# Altium integrated library Altera APEX 20KE.IntLib: 235 symbols (part 47 of 49)
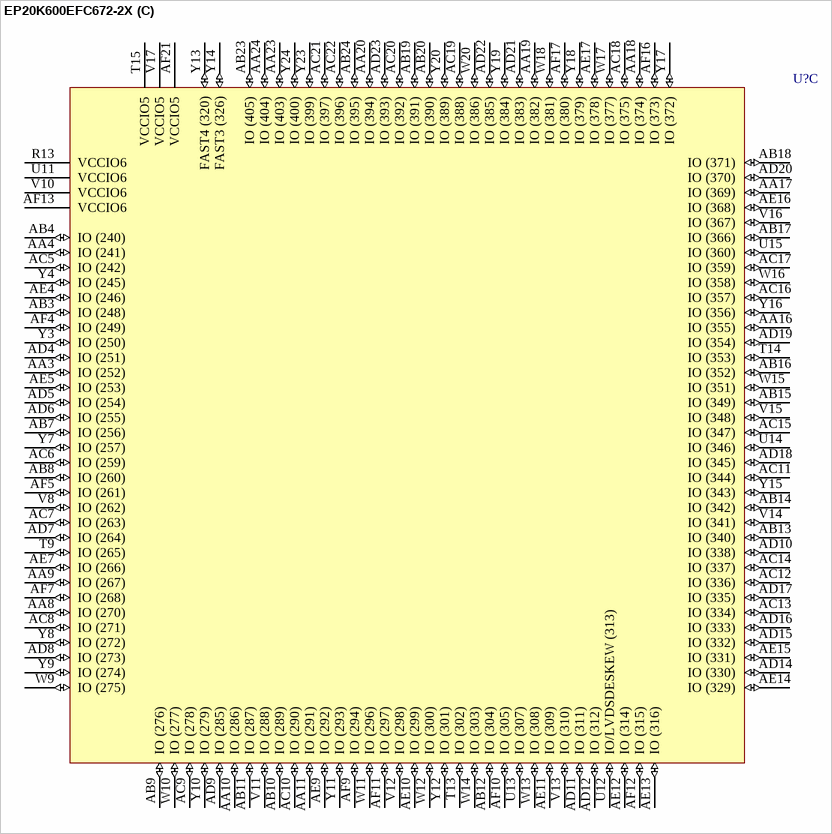
[diagram p445: symbol EP20K600EFC672-2X]

## EP20K1500EFC33-1
designator U?
APEX 20K1500E PLD, 1020-Pin FBGA, Commercial Grade, Speed Grade 1; Published: 17-Jul-2002; LatestRevisionDate: 13-Apr-2006; LatestRevisionNote: IPC-7351 Footprint Added.; DatasheetVersion: Mar-2004; PackageVersion: ver15.1, May-2008; PackageReference: FBGA1020; Publisher: Altium Limited; PackageDescription: 1020-Ball FineLine Ball Grid Array (FBGA1020) - Flip Chip; Code_JEDEC: MS-034-AAP-1; ComponentLink1Description: Manufacturer Link; ComponentLink1URL: http://www.altera.com/products/devices/apex/apx-index.html; ComponentLink2Description: Datasheet; ComponentLink2URL: http://www.altera.com/literature/ds/apex.pdf
footprint FBGA1020 (BGA, 1020-Leads, Body 33x33mm, Pitch 1mm)
3D model EP20K1500E-FBGA1020 (1020-Ball FineLine Ball Grid Array (FBGA1020) - Flip Chip)
part A pins: A3 VCCIO1 (power), A5 IO/DATA5 (1088) (io), A7 VCCIO1 (power), A8 IO/DATA3 (1053) (io), A9 IO/DATA2 (1033) (io), A10 IO/DATA1 (1016) (io), A12 VCCIO1 (power), A13 IO/CLKUSR (998) (io), A14 IO/RDYnBSY (993) (io), A15 IO/INIT_DONE (988) (io), A19 FAST2 (981) (io), A20 FAST1 (975) (io), B5 IO/DATA4 (1070) (io), B7 VCCIO1 (power), B8 IO (1078) (io), B9 IO (1066) (io), B10 IO (1055) (io), B12 VCCIO1 (power), B13 IO (1020) (io), B14 IO (1008) (io), B15 IO (996) (io), B28 IO (1) (io), C8 IO (1079) (io), C9 IO (1067) (io), C10 IO (1056) (io), C13 IO (1021) (io), C14 IO (1009) (io), C15 IO (997) (io), C16 IO (984) (io), C28 IO (2) (io), D8 IO (1080) (io), D9 IO (1068) (io), D10 IO (1057) (io), D13 IO (1023) (io), D14 IO (1010) (io), D15 IO (999) (io), D16 IO (985) (io), E7 IO (1086) (io), E8 IO (1081) (io), E9 IO (1069) (io), E10 IO (1058) (io), E11 IO (1046) (io), E12 IO (1031) (io), E13 IO (1024) (io), E14 IO (1012) (io), E15 IO (1001) (io), E16 IO (986) (io), F7 IO (1087) (io), F8 IO (1082) (io), F9 IO (1071) (io), F10 IO (1059) (io), F11 IO (1047) (io), F12 IO (1039) (io), F13 IO (1025) (io), F14 IO (1013) (io), F15 IO (1002) (io), F16 IO (987) (io), G8 IO (1084) (io), G9 IO (1073) (io), G10 IO (1060) (io), G11 IO (1048) (io), G12 IO (1041) (io), G13 IO (1026) (io), G14 IO (1014) (io), G15 IO (1003) (io), G16 IO (990) (io), H8 IO (1085) (io), H9 IO (1074) (io), H10 IO (1062) (io), H11 IO (1049) (io), H12 IO (1042) (io), H13 IO (1027) (io), H14 IO (1015) (io), H15 IO (1004) (io), H16 IO (991) (io), J9 IO (1075) (io), J10 IO (1063) (io), J11 IO (1051) (io), J12 IO (1043) (io), J13 IO (1028) (io), J14 IO (1017) (io), J15 IO (1005) (io), J16 IO (992) (io), K9 IO (1076) (io), K10 IO (1064) (io), K11 IO (1052) (io), K12 IO (1044) (io), K13 IO (1029) (io), K14 IO (1018) (io), K15 IO (1006) (io), K16 IO (994) (io), L9 IO (1077) (io), L10 IO (1065) (io), L11 IO (1054) (io), L12 IO (1045) (io), L13 IO (1030) (io), L14 IO (1019) (io), L15 IO (1007) (io), L16 IO (995) (io), M18 IO (12) (io), M19 IO (13) (io), M20 IO (3) (io), N17 IO (11) (io), N18 IO (6) (io), N19 IO (7) (io), P18 IO (5) (io), R17 IO (10) (io)
part B pins: A21 VCCIO2 (power), A25 IO (884) (io), A26 VCCIO2 (power), A28 IO (866) (io), A30 VCCIO2 (power), B18 IO (961) (io), B19 IO (950) (io), B20 IO (939) (io), B21 VCCIO2 (power), B23 IO (906) (io), B24 IO (895) (io), B25 IO (883) (io), B26 VCCIO2 (power), C17 IO (971) (io), C18 IO (960) (io), C19 IO (949) (io), C20 IO (938) (io), C23 IO (905) (io), C24 IO (894) (io), C25 IO (881) (io), C29 IO (865) (io), D17 IO (970) (io), D18 IO (959) (io), D19 IO (948) (io), D20 IO (937) (io), D23 IO (903) (io), D24 IO (892) (io), D25 IO (880) (io), D28 IO (864) (io), D29 IO (856) (io), E17 IO (969) (io), E18 IO (958) (io), E19 IO (947) (io), E20 IO (936) (io), E21 IO (928) (io), E22 IO (913) (io), E23 IO (902) (io), E24 IO (891) (io), E25 IO (879) (io), E26 IO (872) (io), E27 IO (868) (io), E28 IO (863) (io), F17 IO (968) (io), F18 IO (957) (io), F19 IO (946) (io), F20 IO (935) (io), F21 IO (927) (io), F22 IO (912) (io), F23 IO (901) (io), F24 IO (890) (io), F25 IO (878) (io), F26 IO (870) (io), F27 IO (867) (io), F28 IO (855) (io), G17 IO (967) (io), G18 IO (956) (io), G19 IO (945) (io), G20 IO (934) (io), G21 IO (926) (io), G22 IO (911) (io), G23 IO (900) (io), G24 IO (889) (io), G25 IO (877) (io), G26 IO (869) (io), H17 IO (965) (io), H18 IO (954) (io), H19 IO (943) (io), H20 IO (932) (io), H21 IO (925) (io), H22 IO (910) (io), H23 IO (899) (io), H24 IO (888) (io), H25 IO (876) (io), J17 IO (964) (io), J18 IO (953) (io), J19 IO (942) (io), J20 IO (931) (io), J21 IO (924) (io), J22 IO (909) (io), J23 IO (898) (io), J24 IO (887) (io), J25 IO (875) (io), K17 IO (963) (io), K18 IO (952) (io), K19 IO (941) (io), K20 IO (930) (io), K21 IO (922) (io), K22 IO (908) (io), K23 IO (897) (io), K24 IO (886) (io), K25 IO (874) (io), L17 IO (962) (io), L18 IO (951) (io), L19 IO (940) (io), L20 IO (929) (io), L21 IO (915) (io), L22 IO (907) (io), L23 IO (896) (io), L24 IO (885) (io), L25 IO (873) (io), M21 IO (854) (io), N20 IO (859) (io), P19 IO (860) (io), R18 IO (861) (io), T17 IO (853) (io)
part C pins: A29 IO/LVDSRXINCLK1n (722) (io), AC31 IO/LVDSRX05n (741) (io), AC32 IO/LVDSRX05p (740) (io), AD31 IO/LVDSRX04p (737) (io), AD32 IO/LVDSRX04n (736) (io), AE31 IO/LVDSRX03n (734) (io), AE32 IO/LVDSRX03p (733) (io), AH31 IO/LVDSRX02p (731) (io), AH32 IO/LVDSRX02n (730) (io), AJ31 IO/LVDSRX01n (728) (io), AJ32 IO/LVDSRX01p (727) (io), AL29 IO/CLKLK_OUT1n (716) (io), B29 IO/LVDSRXINCLK1p (721) (io), C32 VCCIO3 (power), D30 IO (850) (io), D31 IO/LVDSRX16p (776) (io), D32 IO/LVDSRX16n (775) (io), E29 IO (851) (io), E30 IO (843) (io), E31 IO/LVDSRX15n (773) (io), E32 IO/LVDSRX15p (772) (io), G27 IO (849) (io), G28 IO (848) (io), G31 VCCIO3 (power), G32 VCCIO3 (power), H26 IO (842) (io), H27 IO (839) (io), H28 IO (838) (io), H29 IO (834) (io), H30 IO/LOCK3 (729) (io), H31 IO/LVDSRX14p (770) (io), H32 IO/LVDSRX14n (769) (io), J26 IO (844) (io), J27 IO (826) (io), J28 IO (837) (io), J29 IO (820) (io), J31 IO/LVDSRX13n (767) (io), J32 IO/LVDSRX13p (766) (io), K26 IO (827) (io), K27 IO (833) (io), K28 IO (822) (io), K29 IO (812) (io), K31 IO/LVDSRX12p (763) (io), K32 IO/LVDSRX12n (762) (io), L26 IO (829) (io), L27 IO (818) (io), L28 IO (811) (io), M22 IO (845) (io), M23 IO (832) (io), M25 IO (817) (io), M26 IO (815) (io), M27 IO (809) (io), M28 IO (806) (io), M31 VCCIO3 (power), M32 VCCIO3 (power), N21 IO (840) (io), N22 IO (828) (io), N23 IO (816) (io), N25 IO (807) (io), N26 IO (796) (io), N27 IO (799) (io), N28 IO (801) (io), N29 IO (794) (io), N31 IO/LVDSRX11n (760) (io), N32 IO/LVDSRX11p (759) (io), P20 IO (831) (io), P21 IO (823) (io), P22 IO (810) (io), P25 IO (795) (io), P26 IO (787) (io), P27 IO (788) (io), P28 IO (793) (io), P29 IO (786) (io), P31 IO/LVDSRX10p (757) (io), P32 IO/LVDSRX10n (756) (io), R19 IO (821) (io), R20 IO (804) (io), R21 IO (800) (io), R22 IO (798) (io), R23 IO (792) (io), R24 IO (789) (io), R25 IO (785) (io), R26 IO (782) (io), R27 IO (780) (io), R28 IO (779) (io), R29 IO (774) (io), R31 IO/LVDSRX09n (754) (io), R32 IO/LVDSRX09p (753) (io), T18 IO (805) (io), T19 IO (783) (io), T20 IO (781) (io), T21 IO (768) (io), T22 IO (761) (io), T23 IO (755) (io), T25 IO (742) (io), T26 IO (748) (io), T27 IO (723) (io), T28 IO (735) (io), T29 IO (724) (io), V31 IO/LVDSRX08p (750) (io), V32 IO/LVDSRX08n (749) (io), W31 IO/LVDSRX07n (747) (io), W32 IO/LVDSRX07p (746) (io), Y31 IO/LVDSRX06p (744) (io), Y32 IO/LVDSRX06n (743) (io)
part D pins: AA16 IO (569) (io), AA17 IO (562) (io), AA18 IO (566) (io), AA19 IO (571) (io), AA20 IO (573) (io), AA21 IO (578) (io), AA22 IO (605) (io), AA23 IO (610) (io), AA24 IO (624) (io), AA25 IO (637) (io), AA26 IO (643) (io), AA27 IO (644) (io), AA28 IO (651) (io), AA31 VCCIO4 (power), AA32 VCCIO4 (power), AB26 IO (630) (io), AB27 IO (639) (io), AB28 IO (636) (io), AC26 IO (618) (io), AC27 IO (631) (io), AC28 IO (629) (io), AC29 IO (635) (io), AC30 IO/LOCK1 (684) (io), AD26 IO (606) (io), AD27 IO (611) (io), AD28 IO (622) (io), AD29 IO (623) (io), AD30 IO (632) (io), AE26 IO (600) (io), AE27 IO (613) (io), AE28 IO (607) (io), AE29 IO (615) (io), AE30 IO (619) (io), AF26 IO (595) (io), AF27 IO (601) (io), AF28 IO (599) (io), AF31 VCCIO4 (power), AF32 VCCIO4 (power), AG27 IO (590) (io), AG28 IO (593) (io), AH27 IO (574) (io), AH28 IO (594) (io), AH29 IO (596) (io), AH30 IO (604) (io), AJ28 IO (584) (io), AJ29 IO (583) (io), AJ30 IO (602) (io), AK28 IO (579) (io), AK29 IO (577) (io), AK32 VCCIO4 (power), AM28 IO/CLKLK_FB1n (694) (io), N30 CLK1p (706) (in), U17 IO (589) (io), U18 IO (656) (io), U19 IO (669) (io), U20 IO (671) (io), U21 IO (676) (io), U22 IO (675) (io), U23 IO (682) (io), U24 IO (680) (io), U25 IO (683) (io), U26 IO (687) (io), U27 IO (688) (io), U28 IO (689) (io), U29 IO (681) (io), V17 IO (572) (io), V18 IO (591) (io), V19 IO (625) (io), V20 IO (648) (io), V21 IO (649) (io), V22 IO (658) (io), V23 IO (663) (io), V25 IO (667) (io), V26 IO (670) (io), V27 IO (674) (io), V28 IO (677) (io), V29 IO (678) (io), V30 IO/CLK1n (698) (io), W16 IO (561) (io), W17 IO (563) (io), W18 IO (580) (io), W19 IO (582) (io), W20 IO (617) (io), W21 IO (628) (io), W22 IO (641) (io), W23 IO (645) (io), W25 IO (654) (io), W26 IO (665) (io), W27 IO (664) (io), W28 IO (668) (io), W29 IO (662) (io), W30 CLK3p (697) (in), Y16 IO (560) (io), Y17 IO (568) (io), Y18 IO (567) (io), Y19 IO (585) (io), Y20 IO (588) (io), Y21 IO (612) (io), Y22 IO (626) (io), Y23 IO (638) (io), Y24 IO (642) (io), Y25 IO (652) (io), Y26 IO (650) (io), Y27 IO (655) (io), Y28 IO (657) (io), Y29 IO (661) (io), Y30 IO/CLK3n (696) (io)
part E pins: AA13 IO (549) (io), AA14 IO (551) (io), AA15 IO (554) (io), AB17 IO (451) (io), AB18 IO (462) (io), AB19 IO (473) (io), AB20 IO (484) (io), AB21 IO (498) (io), AB22 IO (505) (io), AB23 IO (518) (io), AB24 IO (530) (io), AB25 IO (542) (io), AC17 IO (450) (io), AC18 IO (461) (io), AC19 IO (472) (io), AC20 IO (483) (io), AC21 IO (497) (io), AC22 IO (504) (io), AC23 IO (516) (io), AC24 IO (529) (io), AC25 IO (541) (io), AD17 IO (449) (io), AD18 IO (460) (io), AD19 IO (471) (io), AD20 IO (482) (io), AD21 IO (495) (io), AD22 IO (503) (io), AD23 IO (515) (io), AD24 IO (527) (io), AD25 IO (540) (io), AE17 IO (448) (io), AE18 IO (459) (io), AE19 IO (470) (io), AE20 IO (481) (io), AE21 IO (489) (io), AE22 IO (502) (io), AE23 IO (514) (io), AE24 IO (526) (io), AE25 IO (538) (io), AF17 IO (447) (io), AF18 IO (458) (io), AF19 IO (469) (io), AF20 IO (480) (io), AF21 IO (487) (io), AF22 IO (501) (io), AF23 IO (513) (io), AF24 IO (525) (io), AF25 IO (537) (io), AG17 IO (446) (io), AG18 IO (457) (io), AG19 IO (468) (io), AG20 IO (479) (io), AG21 IO (486) (io), AG22 IO (500) (io), AG23 IO (512) (io), AG24 IO (524) (io), AG25 IO (536) (io), AG26 IO (544) (io), AH5 IO (547) (io), AH17 IO (444) (io), AH18 IO (455) (io), AH19 IO (466) (io), AH20 IO (477) (io), AH21 IO (485) (io), AH22 IO (499) (io), AH23 IO (511) (io), AH24 IO (523) (io), AH25 IO (535) (io), AH26 IO (543) (io), AJ16 IO (440) (io), AJ17 IO (443) (io), AJ18 IO (454) (io), AJ19 IO (465) (io), AJ20 IO (476) (io), AJ23 IO (510) (io), AJ24 IO (522) (io), AJ25 IO (534) (io), AK16 IO (441) (io), AK17 IO (442) (io), AK18 IO (453) (io), AK19 IO (464) (io), AK20 IO (475) (io), AK23 IO (509) (io), AK24 IO (521) (io), AK25 IO (533) (io), AL18 IO (452) (io), AL19 IO (463) (io), AL20 IO (474) (io), AL21 VCCIO5 (power), AL23 IO (508) (io), AL24 IO (520) (io), AL25 IO (532) (io), AL26 VCCIO5 (power), AM15 FAST4 (431) (io), AM18 FAST3 (437) (io), AM21 VCCIO5 (power), AM23 IO (507) (io), AM24 IO (519) (io), AM25 IO (531) (io), AM26 VCCIO5 (power), AM30 VCCIO5 (power), V15 IO (545) (io), V16 IO (557) (io), W15 IO (555) (io), Y13 IO (546) (io), Y14 IO (550) (io), Y15 IO (556) (io)
part F pins: AA11 IO (311) (io), AA12 IO (321) (io), AB8 IO (331) (io), AB9 IO (343) (io), AB10 IO (355) (io), AB11 IO (366) (io), AB12 IO (379) (io), AB13 IO (387) (io), AB14 IO (398) (io), AB15 IO (409) (io), AB16 IO (420) (io), AC8 IO (332) (io), AC9 IO (344) (io), AC10 IO (356) (io), AC11 IO (367) (io), AC12 IO (381) (io), AC13 IO (388) (io), AC14 IO (399) (io), AC15 IO (410) (io), AC16 IO (421) (io), AD8 IO (333) (io), AD9 IO (345) (io), AD10 IO (357) (io), AD11 IO (368) (io), AD12 IO (382) (io), AD13 IO (389) (io), AD14 IO (400) (io), AD15 IO (411) (io), AD16 IO (424) (io), AE7 IO (312) (io), AE8 IO (334) (io), AE9 IO (346) (io), AE10 IO (358) (io), AE11 IO (369) (io), AE12 IO (383) (io), AE13 IO (391) (io), AE14 IO (402) (io), AE15 IO (413) (io), AE16 IO (425) (io), AF5 IO (314) (io), AF6 IO (317) (io), AF7 IO (327) (io), AF8 IO (335) (io), AF9 IO (347) (io), AF10 IO (359) (io), AF11 IO (370) (io), AF12 IO (384) (io), AF13 IO (392) (io), AF14 IO (403) (io), AF15 IO (414) (io), AF16 IO (426) (io), AG5 IO (318) (io), AG6 IO (319) (io), AG7 IO (328) (io), AG8 IO (336) (io), AG9 IO (348) (io), AG10 IO (360) (io), AG11 IO (371) (io), AG12 IO (385) (io), AG13 IO (393) (io), AG14 IO (404) (io), AG15 IO (415) (io), AG16 IO (427) (io), AH4 IO (313) (io), AH6 IO (326) (io), AH7 IO (330) (io), AH8 IO (337) (io), AH9 IO (349) (io), AH10 IO (361) (io), AH11 IO (373) (io), AH12 IO (386) (io), AH13 IO (394) (io), AH14 IO (405) (io), AH15 IO (416) (io), AH16 IO (428) (io), AJ4 IO (324) (io), AJ5 IO (325) (io), AJ8 IO (338) (io), AJ9 IO (350) (io), AJ10 IO (363) (io), AJ13 IO (395) (io), AJ14 IO (406) (io), AJ15 IO (417) (io), AK8 IO (339) (io), AK9 IO (352) (io), AK10 IO (364) (io), AK13 IO (396) (io), AK14 IO (407) (io), AK15 IO (418) (io), AL7 VCCIO6 (power), AL8 IO (341) (io), AL9 IO (353) (io), AL10 IO (365) (io), AL12 VCCIO6 (power), AL13 IO (397) (io), AL14 IO (408) (io), AL15 IO (419) (io), AM3 VCCIO6 (power), AM7 VCCIO6 (power), AM8 IO (342) (io), AM9 IO (354) (io), AM10 IO/LVDSDESKEW (422) (io), AM12 VCCIO6 (power), U16 IO (323) (io), W14 IO (322) (io)
part G pins: AA1 VCCIO7 (power), AA2 VCCIO7 (power), AA5 IO (275) (io), AA6 IO (274) (io), AA7 IO (279) (io), AA8 IO (278) (io), AA10 IO (302) (io), AB5 IO (277) (io), AB6 IO (290) (io), AB7 IO (289) (io), AC1 IO/LVDSTX12n (219) (io), AC2 IO/LVDSTX12p (220) (io), AC4 IO (286) (io), AC5 IO (284) (io), AC6 IO (295) (io), AC7 IO (296) (io), AD1 IO/LVDSTX13p (223) (io), AD2 IO/LVDSTX13n (224) (io), AD4 IO (294) (io), AD5 IO (301) (io), AD6 IO (305) (io), AD7 IO (308) (io), AE1 IO/LVDSTX14n (226) (io), AE2 IO/LVDSTX14p (227) (io), AE3 IO/DEV_OE (171) (io), AE4 IO (297) (io), AE5 IO (306) (io), AE6 IO (307) (io), AF1 VCCIO7 (power), AF2 VCCIO7 (power), AH1 IO/LVDSTX15p (229) (io), AH2 IO/LVDSTX15n (230) (io), AJ1 IO/LVDSTX16n (232) (io), AJ2 IO/LVDSTX16p (233) (io), AJ3 IO/CLKLK_OUT2n (175) (io), AK1 VCCIO7 (power), AK4 IO/LOCK2 (179) (io), AK5 IO/LOCK4 (199) (io), AL4 IO/LVDSTXOUTCLK1p (181) (io), AL5 IO/LVDSTXINCLK1n (178) (io), AM4 IO/LVDSTXOUTCLK1n (180) (io), AM5 IO/LVDSTXINCLK1p (177) (io), D1 IO/LVDSTX01p (184) (io), D2 IO/LVDSTX01n (185) (io), E1 IO/LVDSTX02n (187) (io), E2 IO/LVDSTX02p (188) (io), H1 IO/LVDSTX03p (190) (io), H2 IO/LVDSTX03n (191) (io), J1 IO/LVDSTX04n (193) (io), J2 IO/LVDSTX04p (194) (io), K1 IO/LVDSTX05p (197) (io), K2 IO/LVDSTX05n (198) (io), N1 IO/LVDSTX06n (200) (io), N2 IO/LVDSTX06p (201) (io), P1 IO/LVDSTX07p (203) (io), P2 IO/LVDSTX07n (204) (io), R1 IO/LVDSTX08n (206) (io), R2 IO/LVDSTX08p (207) (io), T5 IO (192) (io), T6 IO (186) (io), U4 IO (205) (io), U5 IO (218) (io), U6 IO (212) (io), U7 IO (231) (io), U8 IO (225) (io), U9 IO (236) (io), U10 IO (240) (io), U11 IO (239) (io), U12 IO (245) (io), U13 IO (243) (io), U14 IO (253) (io), U15 IO (268) (io), V1 IO/LVDSTX09p (210) (io), V2 IO/LVDSTX09n (211) (io), V4 IO (238) (io), V5 IO (244) (io), V6 IO (237) (io), V7 IO (249) (io), V8 IO (242) (io), V10 IO (257) (io), V11 IO (262) (io), V12 IO (263) (io), V13 IO (273) (io), V14 IO (283) (io), W1 IO/LVDSTX10n (213) (io), W2 IO/LVDSTX10p (214) (io), W4 IO (246) (io), W5 IO (258) (io), W6 IO (251) (io), W7 IO (256) (io), W8 IO (255) (io), W10 IO (267) (io), W11 IO (280) (io), W12 IO (291) (io), W13 IO (300) (io), Y1 IO/LVDSTX11p (216) (io), Y2 IO/LVDSTX11n (217) (io), Y4 IO (261) (io), Y5 IO (264) (io), Y6 IO (269) (io), Y7 IO (266) (io), Y8 IO (272) (io), Y10 IO (285) (io), Y11 IO (288) (io), Y12 IO (299) (io)
part H pins: A4 IO/DATA6 (111) (io), B4 IO/DATA7 (118) (io), C1 VCCIO8 (power), C4 IO/nWS (124) (io), C5 IO (40) (io), D3 IO/nCS (137) (io), D4 IO/nRS (131) (io), D5 IO (34) (io), E3 IO/CS (145) (io), E4 IO (43) (io), E5 IO (46) (io), E6 IO (39) (io), F5 IO (50) (io), F6 IO (29) (io), G1 VCCIO8 (power), G2 VCCIO8 (power), G5 IO (51) (io), G6 IO (49) (io), G7 IO (44) (io), H3 IO/DEV_CLRn (147) (io), H4 IO (65) (io), H5 IO (60) (io), H6 IO (56) (io), H7 IO (48) (io), J3 IO/CLKLK_FB2n (149) (io), J4 IO (77) (io), J5 IO (68) (io), J6 IO (61) (io), J7 IO (62) (io), J8 IO (54) (io), K4 IO (91) (io), K5 IO (80) (io), K6 IO (74) (io), K7 IO (67) (io), K8 IO (59) (io), L5 IO (90) (io), L6 IO (86) (io), L7 IO (83) (io), L8 IO (79) (io), M1 VCCIO8 (power), M2 VCCIO8 (power), M5 IO (98) (io), M6 IO (94) (io), M7 IO (87) (io), M8 IO (85) (io), M9 IO (73) (io), M10 IO (66) (io), M11 IO (55) (io), M12 IO (32) (io), M13 IO (35) (io), M14 IO (22) (io), M15 IO (18) (io), M16 IO (17) (io), M17 IO (15) (io), N3 IO/CLK4n (151) (io), N4 IO (107) (io), N5 IO (106) (io), N6 IO (104) (io), N7 IO (99) (io), N8 IO (96) (io), N9 IO (92) (io), N10 IO (84) (io), N11 IO (72) (io), N12 IO (57) (io), N13 IO (37) (io), N14 IO (28) (io), N15 IO (27) (io), N16 IO (24) (io), P3 CLK4p (152) (in), P4 IO (116) (io), P5 IO (120) (io), P6 IO (112) (io), P7 IO (110) (io), P8 IO (105) (io), P10 IO (97) (io), P11 IO (93) (io), P12 IO (81) (io), P13 IO (70) (io), P14 IO (38) (io), P15 IO (26) (io), P16 IO (23) (io), P17 IO (16) (io), R3 IO/CLK2n (153) (io), R4 IO (129) (io), R5 IO (132) (io), R6 IO (126) (io), R7 IO (125) (io), R8 IO (123) (io), R9 IO (122) (io), R10 IO (117) (io), R11 IO (113) (io), R12 IO (103) (io), R13 IO (100) (io), R14 IO (78) (io), R15 IO (33) (io), R16 IO (21) (io), T4 IO (136) (io), T7 IO (146) (io), T8 IO (138) (io), T10 IO (135) (io), T11 IO (139) (io), T12 IO (133) (io), T13 IO (130) (io), T14 IO (119) (io), T15 IO (109) (io), T16 IO (45) (io), Y3 CLK2p (160) (in)
part I pins: A18 TDO (982) (out), A23 nCEO (974) (out), A24 TRST (973) (in), AC3 nCE (161) (in), AD3 TDI (162) (in), AH3 CLKLK_OUT2p (174) (out), AL28 CLKLK_FB1p (695) (in), AM13 CONF_DONE (429) (io), AM14 nSTATUS (430) (io), AM19 TCK (438) (in), AM20 TMS (439) (in), AM29 CLKLK_OUT1p (715) (out), J30 MSEL0 (708) (in), K3 CLKLK_FB2p (150) (in), K30 MSEL1 (707) (in), P30 CLKLK_ENA (705) (in), R30 nCONFIG (704) (in), V3 DATA0 (158) (in), W3 DCLK (159) (in)
part J pins: A2 VCCINT (power), A6 VCCINT (power), A11 VCCINT (power), A16 VCCINT (power), A17 GND (power), A22 VCCINT (power), A27 VCCINT (power), A31 VCCINT (power), AA3 GND (power), AA4 GND (power), AA9 VCC_CKOUT2 (172) (power), AA29 GND (power), AA30 GND (power), AB1 VCCINT (power), AB2 VCCINT (power), AB3 GND (power), AB4 GND (power), AB29 GND (power), AB30 GND (power), AB31 VCCINT (power), AB32 VCCINT (power), AF3 GND (power), AF4 GND (power), AF29 GND (power), AF30 GND (power), AG1 VCCINT (power), AG2 VCCINT (power), AG3 GND (power), AG4 GND (power), AG29 GND (power), AG30 GND (power), AG31 VCCINT (power), AG32 VCCINT (power), AJ6 GND (power), AJ7 GND (power), AJ11 GND (power), AJ12 GND (power), AJ21 GND (power), AJ22 GND (power), AJ26 GND (power), AJ27 GND (power), AK2 GND (power), AK3 GND (power), AK6 GND (power), AK7 GND (power), AK11 GND (power), AK12 GND (power), AK21 GND (power), AK22 GND (power), AK26 GND (power), AK27 GND (power), AK30 GND (power), AK31 GND (power), AL1 VCCINT (power), AL2 GND (power), AL3 GND (power), AL6 VCCINT (power), AL11 VCCINT (power), AL16 GND (power), AL17 VCCINT (power), AL22 VCCINT (power), AL27 VCCINT (power), AL30 GND (power), AL31 GND (power), AL32 VCCINT (power), AM2 VCCINT (power), AM6 VCCINT (power), AM11 VCCINT (power), AM16 GND (power), AM17 VCCINT (power), AM22 VCCINT (power), AM27 VCCINT (power), AM31 VCCINT (power), B1 VCCINT (power), B2 GND (power), B3 GND (power), B6 VCCINT (power), B11 VCCINT (power), B16 VCCINT (power), B17 GND (power), B22 VCCINT (power), B27 VCCINT (power), B30 GND (power), B31 GND (power), B32 VCCINT (power), C2 GND (power), C3 GND (power), C6 GND (power), C7 GND (power), C11 GND (power), C12 GND (power), C21 GND (power), C22 GND (power), C26 GND (power), C27 GND (power), C30 GND (power), C31 GND (power), D6 GND (power), D7 GND (power), D11 GND (power), D12 GND (power), D21 GND (power), D22 GND (power), D26 GND (power), D27 GND (power), F1 VCCINT (power), F2 VCCINT (power), F3 GND (power), F4 GND (power), F29 GND (power), F30 GND (power), F31 VCCINT (power), F32 VCCINT (power), G3 GND (power), G4 GND (power), G29 GND (power), G30 GND (power), L1 VCCINT (power), L2 VCCINT (power), L3 GND (power), L4 GND (power), L29 GND (power), L30 GND (power), L31 VCCINT (power), L32 VCCINT (power), M3 GND (power), M4 GND (power), M24 VCC_CKLK3 (717) (power), M29 GND (power), M30 GND (power), N24 VCC_CKOUT1 (713) (power), P9 VCC_CKLK4 (142) (power), P23 GND_CKLK3 (719) (power), P24 GND_CKLK3 (720) (power), T1 GND (power), T2 GND (power), T3 GND (power), T9 GND_CKLK4 (143/144) (power), T24 GND_CKOUT1 (714) (power), T30 VCCINT (power), T31 VCCINT (power), T32 VCCINT (power), U1 VCCINT (power), U2 VCCINT (power), U3 VCCINT (power), U30 GND (power), U31 GND (power), U32 GND (power), V9 GND_CKLK2 (163/164) (power), V24 GND_CKLK1 (691/692) (power), W9 GND_CKOUT2 (173) (power), W24 VCC_CKLK1 (690) (power), Y9 VCC_CKLK2 (167) (power)

## EP20K1500EFC33-1X
designator U?
APEX 20K1500E PLD with PLLs and LVDS, 1020-Pin FBGA, Commercial Grade, Speed Grade 1; Published: 17-Jul-2002; LatestRevisionDate: 13-Apr-2006; LatestRevisionNote: IPC-7351 Footprint Added.; DatasheetVersion: Mar-2004; PackageVersion: ver15.1, May-2008; PackageReference: FBGA1020; Publisher: Altium Limited; PackageDescription: 1020-Ball FineLine Ball Grid Array (FBGA1020) - Flip Chip; Code_JEDEC: MS-034-AAP-1; ComponentLink1Description: Manufacturer Link; ComponentLink1URL: http://www.altera.com/products/devices/apex/apx-index.html; ComponentLink2Description: Datasheet; ComponentLink2URL: http://www.altera.com/literature/ds/apex.pdf
footprint FBGA1020 (BGA, 1020-Leads, Body 33x33mm, Pitch 1mm)
3D model EP20K1500E-FBGA1020 (1020-Ball FineLine Ball Grid Array (FBGA1020) - Flip Chip)
part A pins: A3 VCCIO1 (power), A5 IO/DATA5 (1088) (io), A7 VCCIO1 (power), A8 IO/DATA3 (1053) (io), A9 IO/DATA2 (1033) (io), A10 IO/DATA1 (1016) (io), A12 VCCIO1 (power), A13 IO/CLKUSR (998) (io), A14 IO/RDYnBSY (993) (io), A15 IO/INIT_DONE (988) (io), A19 FAST2 (981) (io), A20 FAST1 (975) (io), B5 IO/DATA4 (1070) (io), B7 VCCIO1 (power), B8 IO (1078) (io), B9 IO (1066) (io), B10 IO (1055) (io), B12 VCCIO1 (power), B13 IO (1020) (io), B14 IO (1008) (io), B15 IO (996) (io), B28 IO (1) (io), C8 IO (1079) (io), C9 IO (1067) (io), C10 IO (1056) (io), C13 IO (1021) (io), C14 IO (1009) (io), C15 IO (997) (io), C16 IO (984) (io), C28 IO (2) (io), D8 IO (1080) (io), D9 IO (1068) (io), D10 IO (1057) (io), D13 IO (1023) (io), D14 IO (1010) (io), D15 IO (999) (io), D16 IO (985) (io), E7 IO (1086) (io), E8 IO (1081) (io), E9 IO (1069) (io), E10 IO (1058) (io), E11 IO (1046) (io), E12 IO (1031) (io), E13 IO (1024) (io), E14 IO (1012) (io), E15 IO (1001) (io), E16 IO (986) (io), F7 IO (1087) (io), F8 IO (1082) (io), F9 IO (1071) (io), F10 IO (1059) (io), F11 IO (1047) (io), F12 IO (1039) (io), F13 IO (1025) (io), F14 IO (1013) (io), F15 IO (1002) (io), F16 IO (987) (io), G8 IO (1084) (io), G9 IO (1073) (io), G10 IO (1060) (io), G11 IO (1048) (io), G12 IO (1041) (io), G13 IO (1026) (io), G14 IO (1014) (io), G15 IO (1003) (io), G16 IO (990) (io), H8 IO (1085) (io), H9 IO (1074) (io), H10 IO (1062) (io), H11 IO (1049) (io), H12 IO (1042) (io), H13 IO (1027) (io), H14 IO (1015) (io), H15 IO (1004) (io), H16 IO (991) (io), J9 IO (1075) (io), J10 IO (1063) (io), J11 IO (1051) (io), J12 IO (1043) (io), J13 IO (1028) (io), J14 IO (1017) (io), J15 IO (1005) (io), J16 IO (992) (io), K9 IO (1076) (io), K10 IO (1064) (io), K11 IO (1052) (io), K12 IO (1044) (io), K13 IO (1029) (io), K14 IO (1018) (io), K15 IO (1006) (io), K16 IO (994) (io), L9 IO (1077) (io), L10 IO (1065) (io), L11 IO (1054) (io), L12 IO (1045) (io), L13 IO (1030) (io), L14 IO (1019) (io), L15 IO (1007) (io), L16 IO (995) (io), M18 IO (12) (io), M19 IO (13) (io), M20 IO (3) (io), N17 IO (11) (io), N18 IO (6) (io), N19 IO (7) (io), P18 IO (5) (io), R17 IO (10) (io)
part B pins: A21 VCCIO2 (power), A25 IO (884) (io), A26 VCCIO2 (power), A28 IO (866) (io), A30 VCCIO2 (power), B18 IO (961) (io), B19 IO (950) (io), B20 IO (939) (io), B21 VCCIO2 (power), B23 IO (906) (io), B24 IO (895) (io), B25 IO (883) (io), B26 VCCIO2 (power), C17 IO (971) (io), C18 IO (960) (io), C19 IO (949) (io), C20 IO (938) (io), C23 IO (905) (io), C24 IO (894) (io), C25 IO (881) (io), C29 IO (865) (io), D17 IO (970) (io), D18 IO (959) (io), D19 IO (948) (io), D20 IO (937) (io), D23 IO (903) (io), D24 IO (892) (io), D25 IO (880) (io), D28 IO (864) (io), D29 IO (856) (io), E17 IO (969) (io), E18 IO (958) (io), E19 IO (947) (io), E20 IO (936) (io), E21 IO (928) (io), E22 IO (913) (io), E23 IO (902) (io), E24 IO (891) (io), E25 IO (879) (io), E26 IO (872) (io), E27 IO (868) (io), E28 IO (863) (io), F17 IO (968) (io), F18 IO (957) (io), F19 IO (946) (io), F20 IO (935) (io), F21 IO (927) (io), F22 IO (912) (io), F23 IO (901) (io), F24 IO (890) (io), F25 IO (878) (io), F26 IO (870) (io), F27 IO (867) (io), F28 IO (855) (io), G17 IO (967) (io), G18 IO (956) (io), G19 IO (945) (io), G20 IO (934) (io), G21 IO (926) (io), G22 IO (911) (io), G23 IO (900) (io), G24 IO (889) (io), G25 IO (877) (io), G26 IO (869) (io), H17 IO (965) (io), H18 IO (954) (io), H19 IO (943) (io), H20 IO (932) (io), H21 IO (925) (io), H22 IO (910) (io), H23 IO (899) (io), H24 IO (888) (io), H25 IO (876) (io), J17 IO (964) (io), J18 IO (953) (io), J19 IO (942) (io), J20 IO (931) (io), J21 IO (924) (io), J22 IO (909) (io), J23 IO (898) (io), J24 IO (887) (io), J25 IO (875) (io), K17 IO (963) (io), K18 IO (952) (io), K19 IO (941) (io), K20 IO (930) (io), K21 IO (922) (io), K22 IO (908) (io), K23 IO (897) (io), K24 IO (886) (io), K25 IO (874) (io), L17 IO (962) (io), L18 IO (951) (io), L19 IO (940) (io), L20 IO (929) (io), L21 IO (915) (io), L22 IO (907) (io), L23 IO (896) (io), L24 IO (885) (io), L25 IO (873) (io), M21 IO (854) (io), N20 IO (859) (io), P19 IO (860) (io), R18 IO (861) (io), T17 IO (853) (io)
part C pins: A29 IO/LVDSRXINCLK1n (722) (io), AC31 IO/LVDSRX05n (741) (io), AC32 IO/LVDSRX05p (740) (io), AD31 IO/LVDSRX04p (737) (io), AD32 IO/LVDSRX04n (736) (io), AE31 IO/LVDSRX03n (734) (io), AE32 IO/LVDSRX03p (733) (io), AH31 IO/LVDSRX02p (731) (io), AH32 IO/LVDSRX02n (730) (io), AJ31 IO/LVDSRX01n (728) (io), AJ32 IO/LVDSRX01p (727) (io), AL29 IO/CLKLK_OUT1n (716) (io), B29 IO/LVDSRXINCLK1p (721) (io), C32 VCCIO3 (power), D30 IO (850) (io), D31 IO/LVDSRX16p (776) (io), D32 IO/LVDSRX16n (775) (io), E29 IO (851) (io), E30 IO (843) (io), E31 IO/LVDSRX15n (773) (io), E32 IO/LVDSRX15p (772) (io), G27 IO (849) (io), G28 IO (848) (io), G31 VCCIO3 (power), G32 VCCIO3 (power), H26 IO (842) (io), H27 IO (839) (io), H28 IO (838) (io), H29 IO (834) (io), H30 IO/LOCK3 (729) (io), H31 IO/LVDSRX14p (770) (io), H32 IO/LVDSRX14n (769) (io), J26 IO (844) (io), J27 IO (826) (io), J28 IO (837) (io), J29 IO (820) (io), J31 IO/LVDSRX13n (767) (io), J32 IO/LVDSRX13p (766) (io), K26 IO (827) (io), K27 IO (833) (io), K28 IO (822) (io), K29 IO (812) (io), K31 IO/LVDSRX12p (763) (io), K32 IO/LVDSRX12n (762) (io), L26 IO (829) (io), L27 IO (818) (io), L28 IO (811) (io), M22 IO (845) (io), M23 IO (832) (io), M25 IO (817) (io), M26 IO (815) (io), M27 IO (809) (io), M28 IO (806) (io), M31 VCCIO3 (power), M32 VCCIO3 (power), N21 IO (840) (io), N22 IO (828) (io), N23 IO (816) (io), N25 IO (807) (io), N26 IO (796) (io), N27 IO (799) (io), N28 IO (801) (io), N29 IO (794) (io), N31 IO/LVDSRX11n (760) (io), N32 IO/LVDSRX11p (759) (io), P20 IO (831) (io), P21 IO (823) (io), P22 IO (810) (io), P25 IO (795) (io), P26 IO (787) (io), P27 IO (788) (io), P28 IO (793) (io), P29 IO (786) (io), P31 IO/LVDSRX10p (757) (io), P32 IO/LVDSRX10n (756) (io), R19 IO (821) (io), R20 IO (804) (io), R21 IO (800) (io), R22 IO (798) (io), R23 IO (792) (io), R24 IO (789) (io), R25 IO (785) (io), R26 IO (782) (io), R27 IO (780) (io), R28 IO (779) (io), R29 IO (774) (io), R31 IO/LVDSRX09n (754) (io), R32 IO/LVDSRX09p (753) (io), T18 IO (805) (io), T19 IO (783) (io), T20 IO (781) (io), T21 IO (768) (io), T22 IO (761) (io), T23 IO (755) (io), T25 IO (742) (io), T26 IO (748) (io), T27 IO (723) (io), T28 IO (735) (io), T29 IO (724) (io), V31 IO/LVDSRX08p (750) (io), V32 IO/LVDSRX08n (749) (io), W31 IO/LVDSRX07n (747) (io), W32 IO/LVDSRX07p (746) (io), Y31 IO/LVDSRX06p (744) (io), Y32 IO/LVDSRX06n (743) (io)
part D pins: AA16 IO (569) (io), AA17 IO (562) (io), AA18 IO (566) (io), AA19 IO (571) (io), AA20 IO (573) (io), AA21 IO (578) (io), AA22 IO (605) (io), AA23 IO (610) (io), AA24 IO (624) (io), AA25 IO (637) (io), AA26 IO (643) (io), AA27 IO (644) (io), AA28 IO (651) (io), AA31 VCCIO4 (power), AA32 VCCIO4 (power), AB26 IO (630) (io), AB27 IO (639) (io), AB28 IO (636) (io), AC26 IO (618) (io), AC27 IO (631) (io), AC28 IO (629) (io), AC29 IO (635) (io), AC30 IO/LOCK1 (684) (io), AD26 IO (606) (io), AD27 IO (611) (io), AD28 IO (622) (io), AD29 IO (623) (io), AD30 IO (632) (io), AE26 IO (600) (io), AE27 IO (613) (io), AE28 IO (607) (io), AE29 IO (615) (io), AE30 IO (619) (io), AF26 IO (595) (io), AF27 IO (601) (io), AF28 IO (599) (io), AF31 VCCIO4 (power), AF32 VCCIO4 (power), AG27 IO (590) (io), AG28 IO (593) (io), AH27 IO (574) (io), AH28 IO (594) (io), AH29 IO (596) (io), AH30 IO (604) (io), AJ28 IO (584) (io), AJ29 IO (583) (io), AJ30 IO (602) (io), AK28 IO (579) (io), AK29 IO (577) (io), AK32 VCCIO4 (power), AM28 IO/CLKLK_FB1n (694) (io), N30 CLK1p (706) (in), U17 IO (589) (io), U18 IO (656) (io), U19 IO (669) (io), U20 IO (671) (io), U21 IO (676) (io), U22 IO (675) (io), U23 IO (682) (io), U24 IO (680) (io), U25 IO (683) (io), U26 IO (687) (io), U27 IO (688) (io), U28 IO (689) (io), U29 IO (681) (io), V17 IO (572) (io), V18 IO (591) (io), V19 IO (625) (io), V20 IO (648) (io), V21 IO (649) (io), V22 IO (658) (io), V23 IO (663) (io), V25 IO (667) (io), V26 IO (670) (io), V27 IO (674) (io), V28 IO (677) (io), V29 IO (678) (io), V30 IO/CLK1n (698) (io), W16 IO (561) (io), W17 IO (563) (io), W18 IO (580) (io), W19 IO (582) (io), W20 IO (617) (io), W21 IO (628) (io), W22 IO (641) (io), W23 IO (645) (io), W25 IO (654) (io), W26 IO (665) (io), W27 IO (664) (io), W28 IO (668) (io), W29 IO (662) (io), W30 CLK3p (697) (in), Y16 IO (560) (io), Y17 IO (568) (io), Y18 IO (567) (io), Y19 IO (585) (io), Y20 IO (588) (io), Y21 IO (612) (io), Y22 IO (626) (io), Y23 IO (638) (io), Y24 IO (642) (io), Y25 IO (652) (io), Y26 IO (650) (io), Y27 IO (655) (io), Y28 IO (657) (io), Y29 IO (661) (io), Y30 IO/CLK3n (696) (io)
part E pins: AA13 IO (549) (io), AA14 IO (551) (io), AA15 IO (554) (io), AB17 IO (451) (io), AB18 IO (462) (io), AB19 IO (473) (io), AB20 IO (484) (io), AB21 IO (498) (io), AB22 IO (505) (io), AB23 IO (518) (io), AB24 IO (530) (io), AB25 IO (542) (io), AC17 IO (450) (io), AC18 IO (461) (io), AC19 IO (472) (io), AC20 IO (483) (io), AC21 IO (497) (io), AC22 IO (504) (io), AC23 IO (516) (io), AC24 IO (529) (io), AC25 IO (541) (io), AD17 IO (449) (io), AD18 IO (460) (io), AD19 IO (471) (io), AD20 IO (482) (io), AD21 IO (495) (io), AD22 IO (503) (io), AD23 IO (515) (io), AD24 IO (527) (io), AD25 IO (540) (io), AE17 IO (448) (io), AE18 IO (459) (io), AE19 IO (470) (io), AE20 IO (481) (io), AE21 IO (489) (io), AE22 IO (502) (io), AE23 IO (514) (io), AE24 IO (526) (io), AE25 IO (538) (io), AF17 IO (447) (io), AF18 IO (458) (io), AF19 IO (469) (io), AF20 IO (480) (io), AF21 IO (487) (io), AF22 IO (501) (io), AF23 IO (513) (io), AF24 IO (525) (io), AF25 IO (537) (io), AG17 IO (446) (io), AG18 IO (457) (io), AG19 IO (468) (io), AG20 IO (479) (io), AG21 IO (486) (io), AG22 IO (500) (io), AG23 IO (512) (io), AG24 IO (524) (io), AG25 IO (536) (io), AG26 IO (544) (io), AH5 IO (547) (io), AH17 IO (444) (io), AH18 IO (455) (io), AH19 IO (466) (io), AH20 IO (477) (io), AH21 IO (485) (io), AH22 IO (499) (io), AH23 IO (511) (io), AH24 IO (523) (io), AH25 IO (535) (io), AH26 IO (543) (io), AJ16 IO (440) (io), AJ17 IO (443) (io), AJ18 IO (454) (io), AJ19 IO (465) (io), AJ20 IO (476) (io), AJ23 IO (510) (io), AJ24 IO (522) (io), AJ25 IO (534) (io), AK16 IO (441) (io), AK17 IO (442) (io), AK18 IO (453) (io), AK19 IO (464) (io), AK20 IO (475) (io), AK23 IO (509) (io), AK24 IO (521) (io), AK25 IO (533) (io), AL18 IO (452) (io), AL19 IO (463) (io), AL20 IO (474) (io), AL21 VCCIO5 (power), AL23 IO (508) (io), AL24 IO (520) (io), AL25 IO (532) (io), AL26 VCCIO5 (power), AM15 FAST4 (431) (io), AM18 FAST3 (437) (io), AM21 VCCIO5 (power), AM23 IO (507) (io), AM24 IO (519) (io), AM25 IO (531) (io), AM26 VCCIO5 (power), AM30 VCCIO5 (power), V15 IO (545) (io), V16 IO (557) (io), W15 IO (555) (io), Y13 IO (546) (io), Y14 IO (550) (io), Y15 IO (556) (io)
part F pins: AA11 IO (311) (io), AA12 IO (321) (io), AB8 IO (331) (io), AB9 IO (343) (io), AB10 IO (355) (io), AB11 IO (366) (io), AB12 IO (379) (io), AB13 IO (387) (io), AB14 IO (398) (io), AB15 IO (409) (io), AB16 IO (420) (io), AC8 IO (332) (io), AC9 IO (344) (io), AC10 IO (356) (io), AC11 IO (367) (io), AC12 IO (381) (io), AC13 IO (388) (io), AC14 IO (399) (io), AC15 IO (410) (io), AC16 IO (421) (io), AD8 IO (333) (io), AD9 IO (345) (io), AD10 IO (357) (io), AD11 IO (368) (io), AD12 IO (382) (io), AD13 IO (389) (io), AD14 IO (400) (io), AD15 IO (411) (io), AD16 IO (424) (io), AE7 IO (312) (io), AE8 IO (334) (io), AE9 IO (346) (io), AE10 IO (358) (io), AE11 IO (369) (io), AE12 IO (383) (io), AE13 IO (391) (io), AE14 IO (402) (io), AE15 IO (413) (io), AE16 IO (425) (io), AF5 IO (314) (io), AF6 IO (317) (io), AF7 IO (327) (io), AF8 IO (335) (io), AF9 IO (347) (io), AF10 IO (359) (io), AF11 IO (370) (io), AF12 IO (384) (io), AF13 IO (392) (io), AF14 IO (403) (io), AF15 IO (414) (io), AF16 IO (426) (io), AG5 IO (318) (io), AG6 IO (319) (io), AG7 IO (328) (io), AG8 IO (336) (io), AG9 IO (348) (io), AG10 IO (360) (io), AG11 IO (371) (io), AG12 IO (385) (io), AG13 IO (393) (io), AG14 IO (404) (io), AG15 IO (415) (io), AG16 IO (427) (io), AH4 IO (313) (io), AH6 IO (326) (io), AH7 IO (330) (io), AH8 IO (337) (io), AH9 IO (349) (io), AH10 IO (361) (io), AH11 IO (373) (io), AH12 IO (386) (io), AH13 IO (394) (io), AH14 IO (405) (io), AH15 IO (416) (io), AH16 IO (428) (io), AJ4 IO (324) (io), AJ5 IO (325) (io), AJ8 IO (338) (io), AJ9 IO (350) (io), AJ10 IO (363) (io), AJ13 IO (395) (io), AJ14 IO (406) (io), AJ15 IO (417) (io), AK8 IO (339) (io), AK9 IO (352) (io), AK10 IO (364) (io), AK13 IO (396) (io), AK14 IO (407) (io), AK15 IO (418) (io), AL7 VCCIO6 (power), AL8 IO (341) (io), AL9 IO (353) (io), AL10 IO (365) (io), AL12 VCCIO6 (power), AL13 IO (397) (io), AL14 IO (408) (io), AL15 IO (419) (io), AM3 VCCIO6 (power), AM7 VCCIO6 (power), AM8 IO (342) (io), AM9 IO (354) (io), AM10 IO/LVDSDESKEW (422) (io), AM12 VCCIO6 (power), U16 IO (323) (io), W14 IO (322) (io)
part G pins: AA1 VCCIO7 (power), AA2 VCCIO7 (power), AA5 IO (275) (io), AA6 IO (274) (io), AA7 IO (279) (io), AA8 IO (278) (io), AA10 IO (302) (io), AB5 IO (277) (io), AB6 IO (290) (io), AB7 IO (289) (io), AC1 IO/LVDSTX12n (219) (io), AC2 IO/LVDSTX12p (220) (io), AC4 IO (286) (io), AC5 IO (284) (io), AC6 IO (295) (io), AC7 IO (296) (io), AD1 IO/LVDSTX13p (223) (io), AD2 IO/LVDSTX13n (224) (io), AD4 IO (294) (io), AD5 IO (301) (io), AD6 IO (305) (io), AD7 IO (308) (io), AE1 IO/LVDSTX14n (226) (io), AE2 IO/LVDSTX14p (227) (io), AE3 IO/DEV_OE (171) (io), AE4 IO (297) (io), AE5 IO (306) (io), AE6 IO (307) (io), AF1 VCCIO7 (power), AF2 VCCIO7 (power), AH1 IO/LVDSTX15p (229) (io), AH2 IO/LVDSTX15n (230) (io), AJ1 IO/LVDSTX16n (232) (io), AJ2 IO/LVDSTX16p (233) (io), AJ3 IO/CLKLK_OUT2n (175) (io), AK1 VCCIO7 (power), AK4 IO/LOCK2 (179) (io), AK5 IO/LOCK4 (199) (io), AL4 IO/LVDSTXOUTCLK1p (181) (io), AL5 IO/LVDSTXINCLK1n (178) (io), AM4 IO/LVDSTXOUTCLK1n (180) (io), AM5 IO/LVDSTXINCLK1p (177) (io), D1 IO/LVDSTX01p (184) (io), D2 IO/LVDSTX01n (185) (io), E1 IO/LVDSTX02n (187) (io), E2 IO/LVDSTX02p (188) (io), H1 IO/LVDSTX03p (190) (io), H2 IO/LVDSTX03n (191) (io), J1 IO/LVDSTX04n (193) (io), J2 IO/LVDSTX04p (194) (io), K1 IO/LVDSTX05p (197) (io), K2 IO/LVDSTX05n (198) (io), N1 IO/LVDSTX06n (200) (io), N2 IO/LVDSTX06p (201) (io), P1 IO/LVDSTX07p (203) (io), P2 IO/LVDSTX07n (204) (io), R1 IO/LVDSTX08n (206) (io), R2 IO/LVDSTX08p (207) (io), T5 IO (192) (io), T6 IO (186) (io), U4 IO (205) (io), U5 IO (218) (io), U6 IO (212) (io), U7 IO (231) (io), U8 IO (225) (io), U9 IO (236) (io), U10 IO (240) (io), U11 IO (239) (io), U12 IO (245) (io), U13 IO (243) (io), U14 IO (253) (io), U15 IO (268) (io), V1 IO/LVDSTX09p (210) (io), V2 IO/LVDSTX09n (211) (io), V4 IO (238) (io), V5 IO (244) (io), V6 IO (237) (io), V7 IO (249) (io), V8 IO (242) (io), V10 IO (257) (io), V11 IO (262) (io), V12 IO (263) (io), V13 IO (273) (io), V14 IO (283) (io), W1 IO/LVDSTX10n (213) (io), W2 IO/LVDSTX10p (214) (io), W4 IO (246) (io), W5 IO (258) (io), W6 IO (251) (io), W7 IO (256) (io), W8 IO (255) (io), W10 IO (267) (io), W11 IO (280) (io), W12 IO (291) (io), W13 IO (300) (io), Y1 IO/LVDSTX11p (216) (io), Y2 IO/LVDSTX11n (217) (io), Y4 IO (261) (io), Y5 IO (264) (io), Y6 IO (269) (io), Y7 IO (266) (io), Y8 IO (272) (io), Y10 IO (285) (io), Y11 IO (288) (io), Y12 IO (299) (io)
part H pins: A4 IO/DATA6 (111) (io), B4 IO/DATA7 (118) (io), C1 VCCIO8 (power), C4 IO/nWS (124) (io), C5 IO (40) (io), D3 IO/nCS (137) (io), D4 IO/nRS (131) (io), D5 IO (34) (io), E3 IO/CS (145) (io), E4 IO (43) (io), E5 IO (46) (io), E6 IO (39) (io), F5 IO (50) (io), F6 IO (29) (io), G1 VCCIO8 (power), G2 VCCIO8 (power), G5 IO (51) (io), G6 IO (49) (io), G7 IO (44) (io), H3 IO/DEV_CLRn (147) (io), H4 IO (65) (io), H5 IO (60) (io), H6 IO (56) (io), H7 IO (48) (io), J3 IO/CLKLK_FB2n (149) (io), J4 IO (77) (io), J5 IO (68) (io), J6 IO (61) (io), J7 IO (62) (io), J8 IO (54) (io), K4 IO (91) (io), K5 IO (80) (io), K6 IO (74) (io), K7 IO (67) (io), K8 IO (59) (io), L5 IO (90) (io), L6 IO (86) (io), L7 IO (83) (io), L8 IO (79) (io), M1 VCCIO8 (power), M2 VCCIO8 (power), M5 IO (98) (io), M6 IO (94) (io), M7 IO (87) (io), M8 IO (85) (io), M9 IO (73) (io), M10 IO (66) (io), M11 IO (55) (io), M12 IO (32) (io), M13 IO (35) (io), M14 IO (22) (io), M15 IO (18) (io), M16 IO (17) (io), M17 IO (15) (io), N3 IO/CLK4n (151) (io), N4 IO (107) (io), N5 IO (106) (io), N6 IO (104) (io), N7 IO (99) (io), N8 IO (96) (io), N9 IO (92) (io), N10 IO (84) (io), N11 IO (72) (io), N12 IO (57) (io), N13 IO (37) (io), N14 IO (28) (io), N15 IO (27) (io), N16 IO (24) (io), P3 CLK4p (152) (in), P4 IO (116) (io), P5 IO (120) (io), P6 IO (112) (io), P7 IO (110) (io), P8 IO (105) (io), P10 IO (97) (io), P11 IO (93) (io), P12 IO (81) (io), P13 IO (70) (io), P14 IO (38) (io), P15 IO (26) (io), P16 IO (23) (io), P17 IO (16) (io), R3 IO/CLK2n (153) (io), R4 IO (129) (io), R5 IO (132) (io), R6 IO (126) (io), R7 IO (125) (io), R8 IO (123) (io), R9 IO (122) (io), R10 IO (117) (io), R11 IO (113) (io), R12 IO (103) (io), R13 IO (100) (io), R14 IO (78) (io), R15 IO (33) (io), R16 IO (21) (io), T4 IO (136) (io), T7 IO (146) (io), T8 IO (138) (io), T10 IO (135) (io), T11 IO (139) (io), T12 IO (133) (io), T13 IO (130) (io), T14 IO (119) (io), T15 IO (109) (io), T16 IO (45) (io), Y3 CLK2p (160) (in)
part I pins: A18 TDO (982) (out), A23 nCEO (974) (out), A24 TRST (973) (in), AC3 nCE (161) (in), AD3 TDI (162) (in), AH3 CLKLK_OUT2p (174) (out), AL28 CLKLK_FB1p (695) (in), AM13 CONF_DONE (429) (io), AM14 nSTATUS (430) (io), AM19 TCK (438) (in), AM20 TMS (439) (in), AM29 CLKLK_OUT1p (715) (out), J30 MSEL0 (708) (in), K3 CLKLK_FB2p (150) (in), K30 MSEL1 (707) (in), P30 CLKLK_ENA (705) (in), R30 nCONFIG (704) (in), V3 DATA0 (158) (in), W3 DCLK (159) (in)
part J pins: A2 VCCINT (power), A6 VCCINT (power), A11 VCCINT (power), A16 VCCINT (power), A17 GND (power), A22 VCCINT (power), A27 VCCINT (power), A31 VCCINT (power), AA3 GND (power), AA4 GND (power), AA9 VCC_CKOUT2 (172) (power), AA29 GND (power), AA30 GND (power), AB1 VCCINT (power), AB2 VCCINT (power), AB3 GND (power), AB4 GND (power), AB29 GND (power), AB30 GND (power), AB31 VCCINT (power), AB32 VCCINT (power), AF3 GND (power), AF4 GND (power), AF29 GND (power), AF30 GND (power), AG1 VCCINT (power), AG2 VCCINT (power), AG3 GND (power), AG4 GND (power), AG29 GND (power), AG30 GND (power), AG31 VCCINT (power), AG32 VCCINT (power), AJ6 GND (power), AJ7 GND (power), AJ11 GND (power), AJ12 GND (power), AJ21 GND (power), AJ22 GND (power), AJ26 GND (power), AJ27 GND (power), AK2 GND (power), AK3 GND (power), AK6 GND (power), AK7 GND (power), AK11 GND (power), AK12 GND (power), AK21 GND (power), AK22 GND (power), AK26 GND (power), AK27 GND (power), AK30 GND (power), AK31 GND (power), AL1 VCCINT (power), AL2 GND (power), AL3 GND (power), AL6 VCCINT (power), AL11 VCCINT (power), AL16 GND (power), AL17 VCCINT (power), AL22 VCCINT (power), AL27 VCCINT (power), AL30 GND (power), AL31 GND (power), AL32 VCCINT (power), AM2 VCCINT (power), AM6 VCCINT (power), AM11 VCCINT (power), AM16 GND (power), AM17 VCCINT (power), AM22 VCCINT (power), AM27 VCCINT (power), AM31 VCCINT (power), B1 VCCINT (power), B2 GND (power), B3 GND (power), B6 VCCINT (power), B11 VCCINT (power), B16 VCCINT (power), B17 GND (power), B22 VCCINT (power), B27 VCCINT (power), B30 GND (power), B31 GND (power), B32 VCCINT (power), C2 GND (power), C3 GND (power), C6 GND (power), C7 GND (power), C11 GND (power), C12 GND (power), C21 GND (power), C22 GND (power), C26 GND (power), C27 GND (power), C30 GND (power), C31 GND (power), D6 GND (power), D7 GND (power), D11 GND (power), D12 GND (power), D21 GND (power), D22 GND (power), D26 GND (power), D27 GND (power), F1 VCCINT (power), F2 VCCINT (power), F3 GND (power), F4 GND (power), F29 GND (power), F30 GND (power), F31 VCCINT (power), F32 VCCINT (power), G3 GND (power), G4 GND (power), G29 GND (power), G30 GND (power), L1 VCCINT (power), L2 VCCINT (power), L3 GND (power), L4 GND (power), L29 GND (power), L30 GND (power), L31 VCCINT (power), L32 VCCINT (power), M3 GND (power), M4 GND (power), M24 VCC_CKLK3 (717) (power), M29 GND (power), M30 GND (power), N24 VCC_CKOUT1 (713) (power), P9 VCC_CKLK4 (142) (power), P23 GND_CKLK3 (719) (power), P24 GND_CKLK3 (720) (power), T1 GND (power), T2 GND (power), T3 GND (power), T9 GND_CKLK4 (143/144) (power), T24 GND_CKOUT1 (714) (power), T30 VCCINT (power), T31 VCCINT (power), T32 VCCINT (power), U1 VCCINT (power), U2 VCCINT (power), U3 VCCINT (power), U30 GND (power), U31 GND (power), U32 GND (power), V9 GND_CKLK2 (163/164) (power), V24 GND_CKLK1 (691/692) (power), W9 GND_CKOUT2 (173) (power), W24 VCC_CKLK1 (690) (power), Y9 VCC_CKLK2 (167) (power)